# Altium schematic symbol library OP AMP MIC7300YM5-TR.Schlib: 1 symbol
Pins are listed as number, name and electrical type; pins without a type are passive.

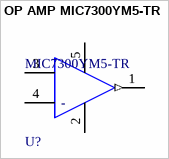
[diagram p0: symbol OP AMP MIC7300YM5-TR]

## OP AMP MIC7300YM5-TR
designator U?, comment MIC7300YM5-TR
IC OPAMP GP 1 CIRCUIT SOT23-5
pins: 1 OUT (out), 2 V- (power), 3 IN+ (hiz), 4 IN- (hiz), 5 V+ (power)
text: -